# Altium footprint library PCB - LEADLESS - SON - TI WSON-10 DQC.PCBLIB: 1 footprints
Each footprint in its own frame and in the unit in brackets; x right, y up, seen from the top. Pads: shape width x height; smd on the part's side, far side on the other; paste and mask are expansions set on the pad; w line width, h text height; cw(c..) or ccw(c..) is an arc to the next point about the centre after c.
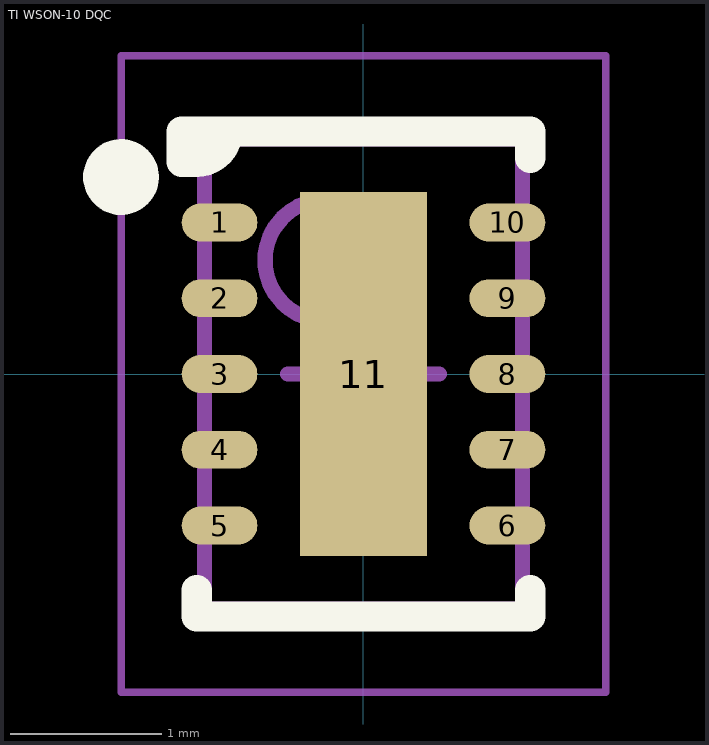
[diagram p0: the footprint, top view; thin cyan lines are the x and y axes]

## TI WSON-10 DQC [mm] "WSON, 10-Leads, Body 2.00x3.00mm, Pitch 0.50mm, Thermal Pad 0.84x2.40mm, IPC Medium Density"
height 0.8
pads (11):
  oval 0.5x0.25 smd: 1(-0.95,1) 2(-0.95,0.5) 3(-0.95,0) 4(-0.95,-0.5) 5(-0.95,-1) 6(0.95,-1) 7(0.95,-0.5) 8(0.95,0) 9(0.95,0.5) 10(0.95,1)
  rect 0.84x2.4 smd: 11(0,0)
Top Overlay:
  circle w0.25: c-1.6,1.3 r0.125
  lines w0.2: -1.1,-1.425 -1.1,-1.6 1.1,-1.6 1.1,-1.425 ; -0.9,1.6 cw(c-1.1,1.6) -1.1,1.4 -1.2,1.4 -1.2,1.6 1.1,1.6 1.1,1.425
Mechanical 13:
  circle w0.1: c-0.25,0.75 r0.4
  lines w0.1: -1.05,-1.55 -1.05,1.55 1.05,1.55 1.05,-1.55 -1.05,-1.55
Mechanical 15:
  lines w0.05: -1.6,-2.1 -1.6,2.1 1.6,2.1 1.6,-2.1 -1.6,-2.1
  lines w0.1: -0.5,0 0.5,0 ; 0,-0.5 0,0.5
3D body: height 0.8, standoff 0.08, extent -1.05,-1.55 1.05,1.55